# Altium footprint library IC_HT7333.PcbLib: 1 footprints
Each footprint in its own frame and in the unit in brackets; x right, y up, seen from the top. Pads: shape width x height; smd on the part's side, far side on the other; paste and mask are expansions set on the pad; w line width, h text height; cw(c..) or ccw(c..) is an arc to the next point about the centre after c.
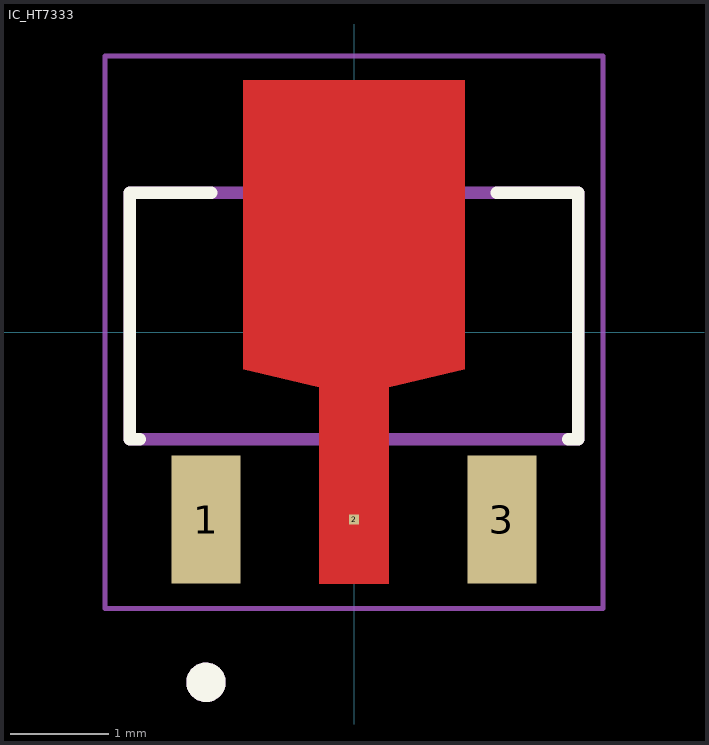
[diagram p0: the footprint, top view; thin cyan lines are the x and y axes]

## IC_HT7333 [mm]
height 1.6
pads (3):
  rect 0.7x1.3 smd: 1(-1.5,-1.9) 3(1.5,-1.9)
  rect 0.1x0.1 smd paste-1 mask+0: 2(0,-1.9)
Top Layer:
  region: 1.125,-0.375 0.35,-0.56 0.35,-2.55 -0.35,-2.55 -0.35,-0.56 -1.125,-0.375 -1.125,2.55 1.125,2.55
Top Overlay:
  circle w0.2: c-1.5,-3.55 r0.1
  lines w0.127: -2.17,-1.085 -2.275,-1.085 -2.275,1.41 -1.445,1.41 ; 1.445,1.41 2.275,1.41 2.275,-1.085 2.17,-1.085
Top Paste:
  region: 1.125,-0.375 0.35,-0.56 0.35,-2.55 -0.35,-2.55 -0.35,-0.56 -1.125,-0.375 -1.125,2.55 1.125,2.55
Top Solder:
  region: 1.225,-0.475 0.45,-0.66 0.45,-2.65 -0.45,-2.65 -0.45,-0.66 -1.225,-0.475 -1.225,2.65 1.225,2.65
Mechanical 13:
  circle w0.2: c-1.5,-3.55 r0.1
  lines w0.127: -2.275,-1.085 2.275,-1.085 2.275,1.41 -2.275,1.41 -2.275,-1.085
Mechanical 15:
  lines w0.05: -2.525,-2.8 -2.525,2.8 2.525,2.8 2.525,-2.8 -2.525,-2.8
3D body "step_temp.STEP": height 1.6, standoff 0, extent -2.248,-1.882 2.248,2.207